# Altium schematic symbol library AIRZAI_LID_BD_REVB.SCHLIB: 19 symbols
Pins are listed as number, name and electrical type; pins without a type are passive.

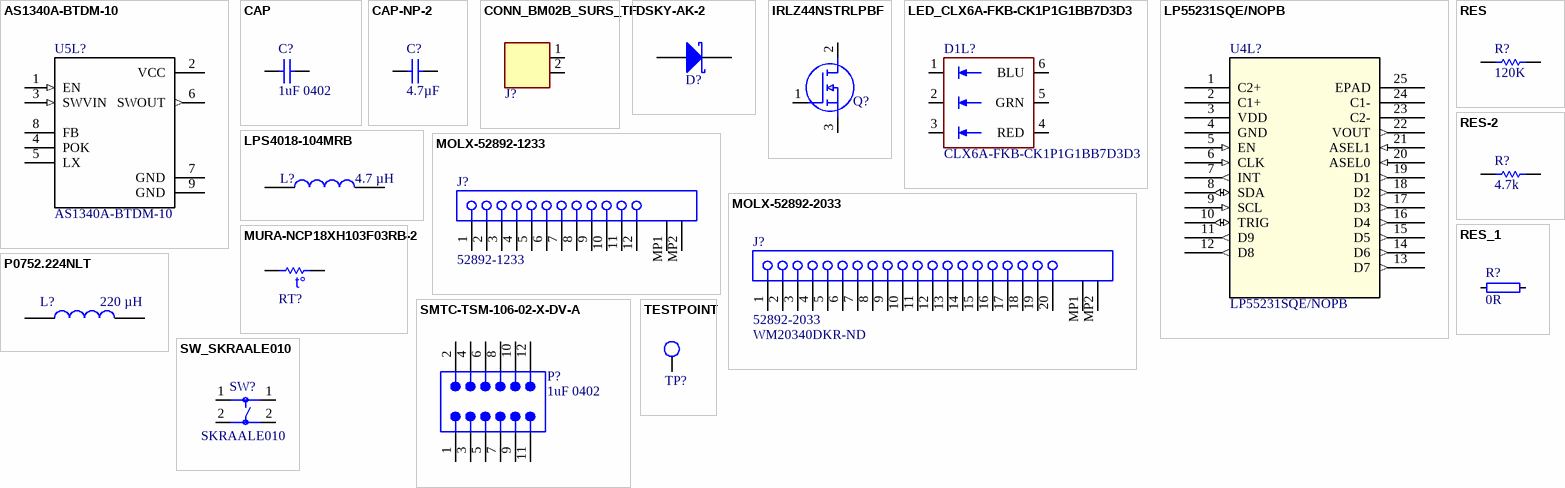
[diagram p0: symbols AS1340A-BTDM-10 to TESTPOINT]

## AS1340A-BTDM-10
designator U5L?
AS Series 50 V 100 mA 1 MHz SMT Micropower DC-DC Boost Converter - TDFN-8; MF: ams; Case-EIA: 8-TDFN (3x3); Rated Voltage: 50V; MP: AS1340A-BTDM-10; Digi-Key_Part_Number: AS1340A-BTDM-10CT-ND; SnapEDA_Link: https://www.snapeda.com/parts/AS1340A-BTDM-10/ams/view-part/?ref=snap; Package: TDFN-8 ams; Digi-Key_Purchase_URL: https://www.digikey.ca/product-detail/en/ams/AS1340A-BTDM-10/AS1340A-BTDM-10CT-ND/2469732?utm_source=snapeda&utm_medium=aggregator&utm_campaign=symbol; Value: *; Manufacturer: ams; Manufacturer Part Number: AS1340A-BTDM-10; Supplier 1: Digi-Key; Supplier Part Number 1: AS1340A-BTDM-10CT-ND; Technology: SMT
footprint DFN300X300X80-9N
pins: 1 EN (in), 2 VCC (power), 3 SWVIN (in), 4 POK, 5 LX, 6 SWOUT (out), 7 GND, 8 FB, 9 GND

## CAP
designator C?, comment 1uF 0402
CAP 1uF 16V ±10% 0402 (1005 Metric) Thickness 0.6mm SMD; Manufacturer: MURATA; Manufacturer Part Number: GRM155R61A105KE15D; Case-EIA: 0402; Rated Voltage: 10 V; Tolerance: Â±10%; Case-Metric: 1005; Note: 10V  ±10% X5R; Technology: SMT; Max Thickness: 0.6 mm; Value: 1uF; Supplier 1: Digi-Key; Supplier Part Number 1: 490-3890-6-ND
footprint CAPC0402(1005)60_M (Chip Capacitor, Body 1.0x0.5mm, Height 0.6mm, IPC Low Density)
footprint CAPC0402(1005)60_N (Chip Capacitor, Body 1.0x0.5mm, Height 0.6mm, IPC Medium Density)
footprint CAPC0402(1005)60_L (Chip Capacitor, Body 1.0x0.5mm, Height 0.6mm, IPC High Density)
pins: 1, 2
1 alternate drawing of the same symbol

## CAP-NP-2
designator C?, comment Capacitance: 4.7µF  (hidden comment: GRM32ER71H475KA88L)
Chip Capacitor, 4.7 uF, +/- 10%, 50 V, -55 to 125 degC, 1210 (3225 Metric), RoHS, Tape and Reel; Manufacturer: Murata; Featured Product: GA3SafetyRecognizedCapsandHi-CapMLCC; Catalog Drawings: GRMSeries_1210_2.5; Product Training Modules: High-CapMultilayerCeramicCapacitors; Voltage Rating DC: 50V; Online Catalog: GRMSeries; Temperature Coefficient: X7R; Other Names: 490-1864-2; Case-EIA: 0402; Case-Metric: 1005; Rated Voltage: 50 V; Value: 4.7µF; Applications: GeneralPurpose; Manufacturer URL: http://www.murata.com/; Packaging: Tape&Reel(TR); Standard Package: 1,000; Tolerance: ±10%; Package Description: 2-Pin Surface Mount Device, Body 3.2 x 2.5 mm; Mounting Technology: SurfaceMount; Lead Style: -; Datasheet URL: https://datasheet.ciiva.com/11786/0900766b806042af-11786805.pdf; Height - Seated (Max): -; Datasheet Version: 11/2004; Operating Temperature: -55°C~125°C; Features: -; Lead Spacing: -; Series: GRM; Package Reference: 1210; Family: CeramicCapacitors; Mounting Type: SurfaceMount,MLCC; Voltage - Rated: 50V; Category: Capacitors; Ratings: -; Package / Case: 1210(3225Metric); Supplier 1: Digi-Key; Supplier Part Number 1: 490-1864-2-ND; Manufacturer Part Number: GRM32ER71H475KA88L; Max Thickness: 0.6 mm
footprint MURA-1210_H_2.7_L (Chip Capacitor, 2-Leads, Body 3.5x2.7mm, IPC High Density)
footprint MURA-1210_H_2.7_M (Chip Capacitor, 2-Leads, Body 3.5x2.7mm, IPC Low Density)
footprint MURA-1210_H_2.7_N (Chip Capacitor, 2-Leads, Body 3.5x2.7mm, IPC Medium Density)
pins: 1, 2

## CONN_BM02B_SURS_TF
designator J?
Manufacturer Part Number: 781710002; Manufacturer: MOLEX; Footprint: CON_78171_0002; Supplier 1: Digi-Key; Supplier Part Number 1: WM4459TR-ND; Technology: SMT
footprint CON_78171_0002 (1.55 MATED HT)
pins: 1, 2

## DSKY-AK-2
designator D?, comment MBR0540  (value not drawn)
Schottky Rectifier, 40 V, 0.5 A, 2-Pin SOD-123, RoHS, Tape and Reel; Manufacturer: Micro Commercial Co; Manufacturer Part Number: MBR0560-TP; Voltage - DC Reverse (Vr) (Max): 60V; Online Catalog: SchottkyDiode; Current - Average Rectified (Io): 500mA; Rated Voltage: 60 V; Series: -; Category: DiscreteSemiconductorProducts; Datasheet URL: https://datasheet.ciiva.com/8303/mbr0540-8303808.pdf; Operating Temperature - Junction: -65degC~125degC; Family: Diodes,Rectifiers-Single; Mounting Type: SurfaceMount; Standard Package: 1; Diode Type: Schottky; Supplier Device Package: SOD-123; Reverse Recovery Time (trr): -; Package / Case: SOD-123; Datasheet Version: Rev. 1.1.0, 10/2014; Capacitance @ Vr, F: -; Packaging: CutTape(CT); Supplier 1: Digi-Key; Supplier Part Number 1: MBR0560TPMSTR-ND; Case-EIA: SOD-123; Case-Metric: SOD-123; Max Thickness: 0.6mm; Technology: SMT; Value: Schottky
footprint FAIR-SOD123-2_V (SOD123, 2-Leads, Body 1.80x2.85mm)
pins: 1 A, 2 K

## IRLZ44NSTRLPBF
designator Q?  (value not drawn)
Infineon IRLZ44NSTRLPBF N-channel MOSFET, 47 A, 55 V HEXFET, 3-Pin D2PAK; Allied_Number: 70017470; Manufacturer_Name: Infineon; Manufacturer_Part_Number: IRLZ44NSTRLPBF; RS Part Number: 1655597; RS Price/Stock: http://uk.rs-online.com/web/p/products/1655597; Allied Price/Stock: https://www.alliedelec.com/infineon-irlz44nstrlpbf/70017470/; Mouser Part Number: 942-IRLZ44NSTRLPBF; Mouser Price/Stock: https://www.mouser.com/Search/Refine.aspx?Keyword=942-IRLZ44NSTRLPBF; Datasheet Link: https://www.infineon.com/dgdl/irlz44nspbf.pdf?fileId=5546d462533600a40153567221272727; Manufacturer: Infineon; Manufacturer Part Number: IRLZ44NSTRLPBF; Supplier 1: RS Components; Supplier Part Number 1: 942-IRLZ44NSTRLPBF; Technology: SMT
footprint D2PAK
pins: 1 G, 2 D, 3 S

## LED_CLX6A-FKB-CK1P1G1BB7D3D3
designator D1L?, comment CLX6A-FKB-CK1P1G1BB7D3D3
Manufacturer: CREE; Case-EIA: 6-SMD, J-Lead; Rated Voltage: 2V, 3.2V, 3.2V; Manufacturer Part Number: CLX6A-FKB-CK1P1G1BB7D3D3; Footprint: LED_CLX6A-FKB; Note: *; Value: CLX6A-FKB-CK1P1G1BB7D3D3; Supplier 1: Digi-Key; Supplier Part Number 1: CLX6A-FKB-CK1P1G1BB7D3D3CT-ND; Technology: SMT
footprint LED_CLX6A-FKB (CREE LED 3 IN 1)
pins: 1, 2, 3, 4 RED, 5 GRN, 6 BLU

## LP55231SQE/NOPB
designator U4L?
Imported; Vendor: Texas Instruments; Built_By: EMA_UL_Team; C: Copyright (C) 2016 Accelerated Designs. All rights reserved; Case-EIA: 24-WQFN (4x4); Rated Voltage: 5.5V; Manufacturer_Part_Number: LP55231SQE/NOPB; RefDes: RefDes; Type: DEV; Value: Value; Supplier 1: Digi-Key; Supplier 2: Digi-Key; Supplier Part Number 2: LP55231SQE/NOPB-ND; Manufacturer: Texas Instruments; Manufacturer Part Number: LP55231SQE/NOPB; Supplier Part Number 1: 296-39059-1-ND; Technology: SMT
footprint RTW24
pins: 1 C2+, 2 C1+, 3 VDD (power), 4 GND (power), 5 EN (in), 6 CLK (in), 7 INT (out), 8 SDA (io), 9 SCL (in), 10 TRIG (io), 11 D9 (out), 12 D8 (out), 13 D7 (out), 14 D6 (out), 15 D5 (out), 16 D4 (out), 17 D3 (out), 18 D2 (out), 19 D1 (out), 20 ASEL0 (in), 21 ASEL1 (in), 22 VOUT (out), 23 C2-, 24 C1-, 25 EPAD

## LPS4018-104MRB
designator L?  Inductance: 4.7 µH  (hidden comment: LPS4018-104MRB)
COILCRAFT - LPS4018-104MRB - INDUCTOR, SHLD, 4.7UH, 20%, 0.35A, SMD; Value: 4.7µF; Manufacturer_Name: COILCRAFT; Manufacturer_Part_Number: LPS4018-104MRB; RS Part Number: *; RS Price/Stock: *; Mouser Price/Stock: https://www.mouser.com/Search/Refine.aspx?Keyword=994-LPS4018-104MRB; Datasheet Link: https://componentsearchengine.com/Datasheets/2/LPS4018-104MRB.pdf; Supplier 1: Farnell; Supplier Part Number 1: 2408113RL; Manufacturer: COILCRAFT; Manufacturer Part Number: LPS4018-104MRB; Max Thickness: 0.3 mm; Technology: SMT; Tolerance: ± 20%
footprint LPS4018
pins: 1, 2

## MOLX-52892-1233
designator J?, comment 52892-1233
0.5 mm Pitch Easy-On(TM) Type FPC Connector, 2.0 mm Mated Height, Right Angle, ZIF, SMT, Bottom Contact, 12 Circuits, -40 to 85 degC, ELV and RoHS Compliant, Tape and Reel; Manufacturer: MOLEX; Manufacturer Part Number: 0528921233; Circuits (Loaded): 12; Material - Plating Mating: Silver, Tin-Bismuth; Voltage (Max): 50V; Durability (mating cycles max): 20; Polarized to PCB: No; Mated Height: 2.00mm; Current (Max per Contact): 0.5A; PCB Retention: Yes; Pitch - Mating Interface: 0.50mm; Material - Metal: Phosphor Bronze; Entry Angle: 90degrees Angle; ComponentLink2URL: http://www.molex.com/webdocs/datasheets/pdf/en-us/0528921233_FFC_FPC_CONNECTORS.pdf; Number of Rows: 1; Mounting Technology: Surface Mount; ComponentLink1URL: http://www.molex.com/molex/index.jsp; ComponentLink3URL: http://www.molex.com/pdm_docs/sd/528921233_sd.pdf; ComponentLink1Description: Manufacturer URL; ComponentLink2Description: Datasheet; Contact Position: Bottom; PartNumber: 52892-1233; PackageVersion: Rev. A, 05/2013; Orientation: Right Angle; Packing: Tape and Reel; PackageReference: 52892-1233; RoHS: TRUE; Stackable: No; Material - Plating Termination: Silver, Tin-Bismuth; PCB Locator: No; Pitch - Termination Interface: 0.50mm; ComponentLink3Description: Package Specification; PackageDescription: 12-Lead FPC Connector, Pitch 0.5 mm; Max Thickness: 0.6 mm; Supplier 1: Digi-Key; Supplier Part Number 1: WM11084TR-ND; Technology: SMT
footprint MOLX-52892-1233 (FPC Connector, 12-Leads, Right Angle, Pitch 0.5 mm, Mated Height 2.0 mm, SMT)
pins: 1, 2, 3, 4, 5, 6, 7, 8, 9, 10, 11, 12, MP1, MP2

## MOLX-52892-2033
designator J?, comment 52892-2033  Supplier Part Number 1: WM20340DKR-ND
0.5 mm Pitch Easy-On(TM) Type FPC Connector, 2.0 mm Mated Height, Right Angle, ZIF, SMT, Bottom Contact, 20 Circuits, -40 to 85 degC, ELV and RoHS Compliant, Tape and Reel; Manufacturer: MOLEX; Manufacturer Part Number: 0528922096; Material - Metal: Phosphor Bronze; Material - Plating Termination: Silver, Tin-Bismuth; Current (Max per Contact): 0.5A; Pitch - Mating Interface: 0.50mm; PCB Retention: Yes; Mated Height: 2.00mm; Entry Angle: 90degrees Angle; PCB Locator: No; Durability (mating cycles max): 20; Voltage (Max): 50V; ComponentLink1URL: http://www.molex.com/molex/index.jsp; Number of Rows: 1; PartNumber: 52892-2033; Contact Position: Bottom; PackageVersion: Rev. A, 05/2013; ComponentLink2Description: Datasheet; Mounting Technology: Surface Mount; Material - Plating Mating: Silver, Tin-Bismuth; ComponentLink2URL: http://www.molex.com/webdocs/datasheets/pdf/en-us/0528922033_FFC_FPC_CONNECTORS.pdf; PackageDescription: 20-Lead FPC Connector, Pitch 0.5 mm; Packing: Tape and Reel; ComponentLink3Description: Package Specification; ComponentLink3URL: http://www.molex.com/pdm_docs/sd/528922033_sd.pdf; Pitch - Termination Interface: 0.50mm; Orientation: Right Angle; Circuits (Loaded): 20; Polarized to PCB: No; Stackable: No; PackageReference: 52892-2033; ComponentLink1Description: Manufacturer URL; RoHS: TRUE; Supplier 1: Digi-Key; Max Thickness: 0.6 mm; Technology: SMT
footprint MOLX-52892-2033 (FPC Connector, 20-Leads, Right Angle, Pitch 0.5 mm, Mated Height 2.0 mm, SMT)
pins: 1, 2, 3, 4, 5, 6, 7, 8, 9, 10, 11, 12, 13, 14, 15, 16, 17, 18, 19, 20, MP1, MP2

## MURA-NCP18XH103F03RB-2
designator RT?, comment NCP18XH103F03RB  (value not drawn)
NTC Thermistor, 10 KOhm, +/- 1%, 0.1 W, -40 to 125 degC, 0603 (1608 Metric), RoHS, Tape and Reel; Manufacturer: Murata; B-constant: 3434K; Resistance: 10kO; Rated Current: 310A; Case-EIA: 0603; Case-Metric: 1608; Value: 3455K; Datasheet URL: http://www.jameco.com/Jameco/Products/ProdDS/1870999.pdf; Datasheet Version: Apr-05; Temperature Range: -40to+125degC; Tolerance (%): ±1%; Manufacturer URL: http://www.murata.com/; Type: NTC; Manufacturer Part Number: NCP18XH103F03RB; Max Thickness: 0.6 mm; Supplier 1: Digi-Key; Supplier Part Number 1: 490-4800-2-ND; Technology: SMT; Tolerance: 1 %
footprint MURA-NCP18XH103F03RB-2_V (Chip, 2-Leads, Body 1.6x0.8mm)
pins: 1, 2
text: t°

## P0752.224NLT
designator L?  Inductance: 220 µH  (hidden comment: P0752.224NLT)
Pulse P0751NL/52NL Series Wire-wound SMD Inductor 220 H 20% Wire-Wound 800mA Idc; Geometry.Height: 5mm; Value: 220µF; Mouser Part Number: 673-P0752.224NLT; Manufacturer_Name: Pulse; Manufacturer_Part_Number: P0752.224NLT; Datasheet Link: https://componentsearchengine.com/Datasheets/1/P0752.224NLT.pdf; Manufacturer: Pulse; Manufacturer Part Number: P0752.224NLT; Max Thickness: 0.3 mm; Supplier 1: Digi-Key; Supplier Part Number 1: 553-1069-2-ND; Technology: SMT; Tolerance: ± 20%
footprint P0751102NLT
pins: 1, 2

## RES
designator R?, comment 120K
120K 0.063W 1% 0402 (1005 Metric)  SMD; Manufacturer: Yageo; Manufacturer Part Number: RC0402JR-07120KL; Case-EIA: 0402; Case-Metric: 1005; Value: 120000.00 Ohm; Tolerance: 5%; Technology: SMT; Power: 0.063 W; Max Thickness: 0.6 mm; Supplier 1: Digi-Key; Supplier Part Number 1: 311-120KJRTR-ND
footprint RESC0402(1005)_L (Chip Resistor, Body 1.0x0.5mm, IPC High Density)
footprint RESC0402(1005)_M (Chip Resistor, Body 1.0x0.5mm, IPC Low Density)
footprint RESC0402(1005)_N (Chip Resistor, Body 1.0x0.5mm, IPC Medium Density)
pins: 1, 2
1 alternate drawing of the same symbol

## RES-2
designator R?, comment Resistance (Ohms): 4.7k  (hidden comment: RMCF0402JT4K70)
Chip Resistor, 4.7 KOhm, +/- 5%, 0.063 W, -55 to 155 degC, 0402 (1005 Metric), RoHS, Tape and Reel; Manufacturer: Stackpole-Electronics-Inc.; Temperature Coefficient: ±100ppm/°C; Power (Watts): 0.063W,1/16W; Case-EIA: 0402; Case-Metric: 1005; Value: 4.7K; Tolerance: ±5%; Family: ChipResistor-SurfaceMount; Datasheet Version: 01/2017; Composition: ThickFilm; Operating Temperature: -55°C~155°C; Features: AutomotiveAEC-Q200; Package Reference: 0402; Datasheet URL: https://www.seielect.com/Catalog/SEI-RMCF_RMCP.pdf; Package Description: 2-Pin Surface Mount Device, Body 1 x 0.5 mm; Packaging: Digi-Reel®; Package / Case: 0402(1005Metric); Category: Resistors; Mounting Technology: SurfaceMount; Number of Terminations: 2; Supplier Device Package: 0402; Manufacturer URL: https://www.seielect.com/; Series: RMCF; Manufacturer Part Number: RMCF0402JT4K70; Max Thickness: 0.6 mm; Supplier 1: Digi-Key; Supplier Part Number 1: RMCF0402JT4K70TR-ND; Technology: SMT
footprint RESC1005X40X25LL10T15 (Chip Resistor, 2-Leads, Body 1.1x0.55mm, IPC High Density)
footprint RESC1005X40X25ML10T15 (Chip Resistor, 2-Leads, Body 1.1x0.55mm, IPC Low Density)
footprint RESC1005X40X25NL10T15 (Chip Resistor, 2-Leads, Body 1.1x0.55mm, IPC Medium Density)
pins: 1, 2

## RES_1
designator R?, comment 0R
Resistor, ±1%, 0.063W; Manufacturer: Panasonic; Manufacturer Part Number: ERJ-2GE0R00X; Note: 0.1W JUMPER; Case-EIA: 0402; Case-Metric: 1005; Tolerance: 5 %; Datasheet: *; Footprint: 0402; Pin Count: 2; Value: 0R; 2nd source Supplier: *; 2nd source part number: *; Max Thickness: 0.6 mm; Supplier 1: Digi-Key; Supplier Part Number 1: P0.0JTR-ND; Technology: SMT
footprint SM0402_BTD.1SM_ACT
pins: 1, 2

## SMTC-TSM-106-02-X-DV-A
designator P?, comment 1uF 0402
Manufacturer: Samtec; PartNumber: TSM-106-02-T-DV-A; Manufacturer Part Number: TSM-106-02-T-DV-A-TR; Pitch: 2.54 mm; Mounting Technology: Surface Mount; Temperature Range: -55 to 105 degC; ComponentLink2Description: Datasheet; ComponentLink1URL: http://www.samtec.com; RoHS: True; ComponentLink1Description: Manufacturer URL; ComponentLink2URL: http://www.samtec.com/documents/webfiles/pdf/TSM.PDF; Orientation: Vertical; PackageVersion: U, 10/1997; DatasheetVersion: F-214; PackageReference: TSM-106-02-X-DV-A; ComponentLink3Description: Package Specification; ComponentLink3URL: http://www.samtec.com/documents/webfiles/cpdf/TSM-1XX-XX-XX-DV-S-XXX-XX-MKT1.pdf; Supplier 1: Digi-Key; Supplier Part Number 1: TSM-106-02-T-DV-A-TR-ND; Technology: SMT
footprint SMTC-TSM-106-02-X-DV-A (Double Row Gullwing Asm, 2x6 Pins, Vertical, 2.54mm Pitch, Male)
pins: 1, 2, 3, 4, 5, 6, 7, 8, 9, 10, 11, 12

## SW_SKRAALE010
designator SW?, comment SKRAALE010
Manufacturer: ALPS; Manufacturer Part Number: SKRAAKE010; Footprint: SW_ALPS_SKRAALE010; Value: SKRAALE010
footprint SW_ALPS_SKRAALE010 (6.2MM SQ 2.9RD ACT)
pins: 1, 1, 2, 2

## TESTPOINT
designator TP?  (value not drawn)
footprint TP_0.9MM (0.9MM DIA TESTPOINT)
pins: 1